# Altium schematic symbol library SCH - MCU - STM32 - ST MICROELECTRONICS STM32G411KBUX UFQFPN32.SchLib: 1 symbol
Pins are listed as number, name and electrical type; pins without a type are passive.

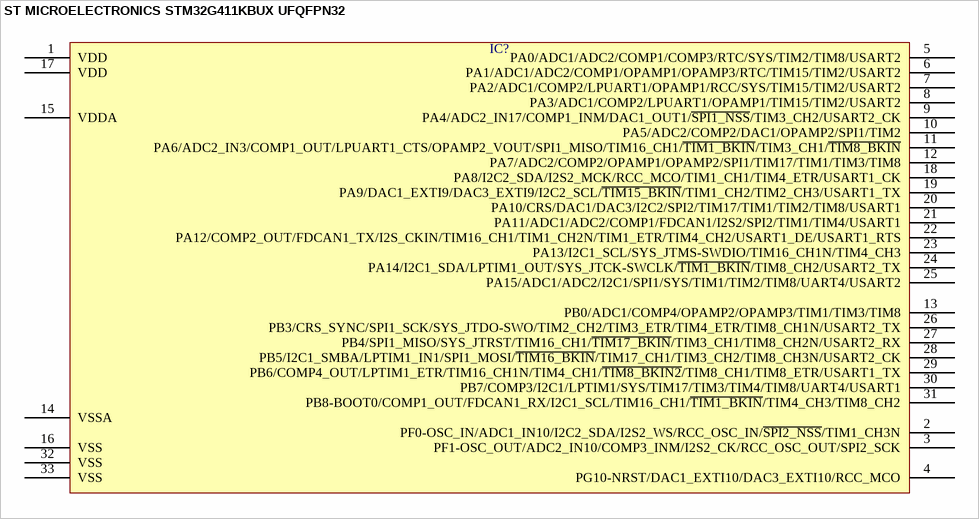
[diagram p0: symbol ST MICROELECTRONICS STM32G411KBUX UFQFPN32]

## ST MICROELECTRONICS STM32G411KBUX UFQFPN32
designator IC?  (value not drawn)
pins: 1 VDD, 2 PF0-OSC_IN/ADC1_IN10/I2C2_SDA/I2S2_WS/RCC_OSC_IN/~{SPI2_NSS}/TIM1_CH3N, 3 PF1-OSC_OUT/ADC2_IN10/COMP3_INM/I2S2_CK/RCC_OSC_OUT/SPI2_SCK, 4 PG10-NRST/DAC1_EXTI10/DAC3_EXTI10/RCC_MCO, 5 PA0/ADC1/ADC2/COMP1/COMP3/RTC/SYS/TIM2/TIM8/USART2, 6 PA1/ADC1/ADC2/COMP1/OPAMP1/OPAMP3/RTC/TIM15/TIM2/USART2, 7 PA2/ADC1/COMP2/LPUART1/OPAMP1/RCC/SYS/TIM15/TIM2/USART2, 8 PA3/ADC1/COMP2/LPUART1/OPAMP1/TIM15/TIM2/USART2, 9 PA4/ADC2_IN17/COMP1_INM/DAC1_OUT1/~{SPI1_NSS}/TIM3_CH2/USART2_CK, 10 PA5/ADC2/COMP2/DAC1/OPAMP2/SPI1/TIM2, 11 PA6/ADC2_IN3/COMP1_OUT/LPUART1_CTS/OPAMP2_VOUT/SPI1_MISO/TIM16_CH1/~{TIM1_BKIN}/TIM3_CH1/~{TIM8_BKIN}, 12 PA7/ADC2/COMP2/OPAMP1/OPAMP2/SPI1/TIM17/TIM1/TIM3/TIM8, 13 PB0/ADC1/COMP4/OPAMP2/OPAMP3/TIM1/TIM3/TIM8, 14 VSSA, 15 VDDA, 16 VSS, 17 VDD, 18 PA8/I2C2_SDA/I2S2_MCK/RCC_MCO/TIM1_CH1/TIM4_ETR/USART1_CK, 19 PA9/DAC1_EXTI9/DAC3_EXTI9/I2C2_SCL/~{TIM15_BKIN}/TIM1_CH2/TIM2_CH3/USART1_TX, 20 PA10/CRS/DAC1/DAC3/I2C2/SPI2/TIM17/TIM1/TIM2/TIM8/USART1, 21 PA11/ADC1/ADC2/COMP1/FDCAN1/I2S2/SPI2/TIM1/TIM4/USART1, 22 PA12/COMP2_OUT/FDCAN1_TX/I2S_CKIN/TIM16_CH1/TIM1_CH2N/TIM1_ETR/TIM4_CH2/USART1_DE/USART1_RTS, 23 PA13/I2C1_SCL/SYS_JTMS-SWDIO/TIM16_CH1N/TIM4_CH3, 24 PA14/I2C1_SDA/LPTIM1_OUT/SYS_JTCK-SWCLK/~{TIM1_BKIN}/TIM8_CH2/USART2_TX, 25 PA15/ADC1/ADC2/I2C1/SPI1/SYS/TIM1/TIM2/TIM8/UART4/USART2, 26 PB3/CRS_SYNC/SPI1_SCK/SYS_JTDO-SWO/TIM2_CH2/TIM3_ETR/TIM4_ETR/TIM8_CH1N/USART2_TX, 27 PB4/SPI1_MISO/SYS_JTRST/TIM16_CH1/~{TIM17_BKIN}/TIM3_CH1/TIM8_CH2N/USART2_RX, 28 PB5/I2C1_SMBA/LPTIM1_IN1/SPI1_MOSI/~{TIM16_BKIN}/TIM17_CH1/TIM3_CH2/TIM8_CH3N/USART2_CK, 29 PB6/COMP4_OUT/LPTIM1_ETR/TIM16_CH1N/TIM4_CH1/~{TIM8_BKIN2}/TIM8_CH1/TIM8_ETR/USART1_TX, 30 PB7/COMP3/I2C1/LPTIM1/SYS/TIM17/TIM3/TIM4/TIM8/UART4/USART1, 31 PB8-BOOT0/COMP1_OUT/FDCAN1_RX/I2C1_SCL/TIM16_CH1/~{TIM1_BKIN}/TIM4_CH3/TIM8_CH2, 32 VSS, 33 VSS